# EAGLE library part 22-05-3081 (library con-molex-kk)
HEADER
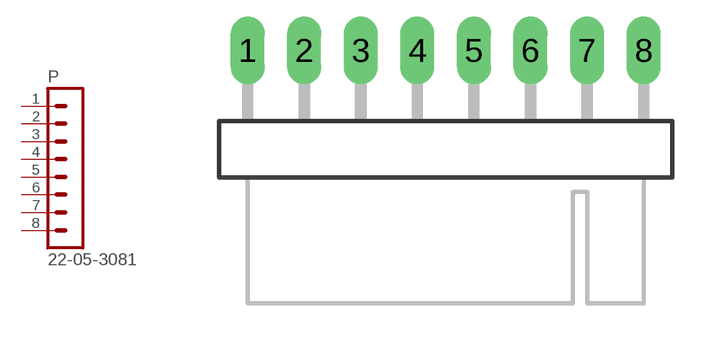
[diagram p176: symbol with the pads of 22-05-3081; footprint 22-05-3081]

Designator prefix P

## 22-05-3081  [22-05-3081]
1  1  pas
2  2  pas
3  3  pas
4  4  pas
5  5  pas
6  6  pas
7  7  pas
8  8  pas

## Footprint 22-05-3081 (pad centres in mm)
HEADER
drill 1.016 long: 1 -8.89,0; 2 -6.35,0; 3 -3.81,0; 4 -1.27,0; 5 1.27,0; 6 3.81,0; 7 6.35,0; 8 8.89,0